# Altium schematic symbol library RIGHT_ANGLE_LIGHT_GUIDE_4.SchLib: 1 symbol
Pins are listed as number, name and electrical type; pins without a type are passive.

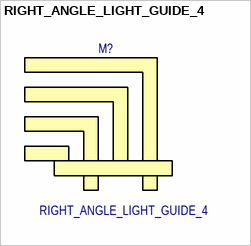
[diagram p0: symbol RIGHT_ANGLE_LIGHT_GUIDE_4]

## RIGHT_ANGLE_LIGHT_GUIDE_4
designator M?
Угловой световод на 4 светодиода